# EAGLE library part WEO012832D (library OLED)
OLED 128x32, 128x32 OLED Display, 0.91 inch OLED Model No. WEO012832D Manufacturer link <https://www.winstar.com.tw/products/oled-module/graphic-oled-display/wearable-displays.html>
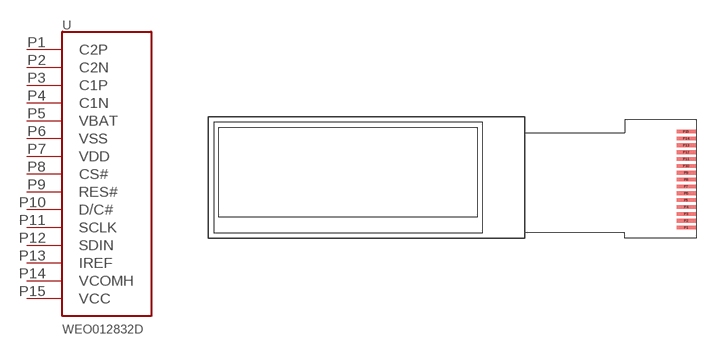
[diagram p0: symbol with the pads of WEO012832D; footprint WEO012832D]

Designator prefix -

## WEO012832D  [WEO012832D]
P1  C2P
P2  C2N
P3  C1P
P4  C1N
P5  VBAT
P6  VSS
P7  VDD
P8  CS#
P9  RES#
P10  D/C#
P11  SCLK
P12  SDIN
P13  IREF
P14  VCOMH
P15  VCC

## Footprint WEO012832D (pad centres in mm)
smd 1.8 x 0.35: P1 45.3,1; P2 45.3,1.65; P3 45.3,2.3; P4 45.3,2.95; P5 45.3,3.6; P6 45.3,4.25; P7 45.3,4.9; P8 45.3,5.55; P9 45.3,6.2; P10 45.3,6.85; P11 45.3,7.5; P12 45.3,8.15; P13 45.3,8.8; P14 45.3,9.45; P15 45.3,10.1